# Altium footprint library YaoPCB.PCBLIB: 415 footprints (part 7 of 26)
Each footprint in its own frame and in the unit in brackets; x right, y up, seen from the top. Pads: shape width x height; smd on the part's side, far side on the other; paste and mask are expansions set on the pad; w line width, h text height; cw(c..) or ccw(c..) is an arc to the next point about the centre after c.
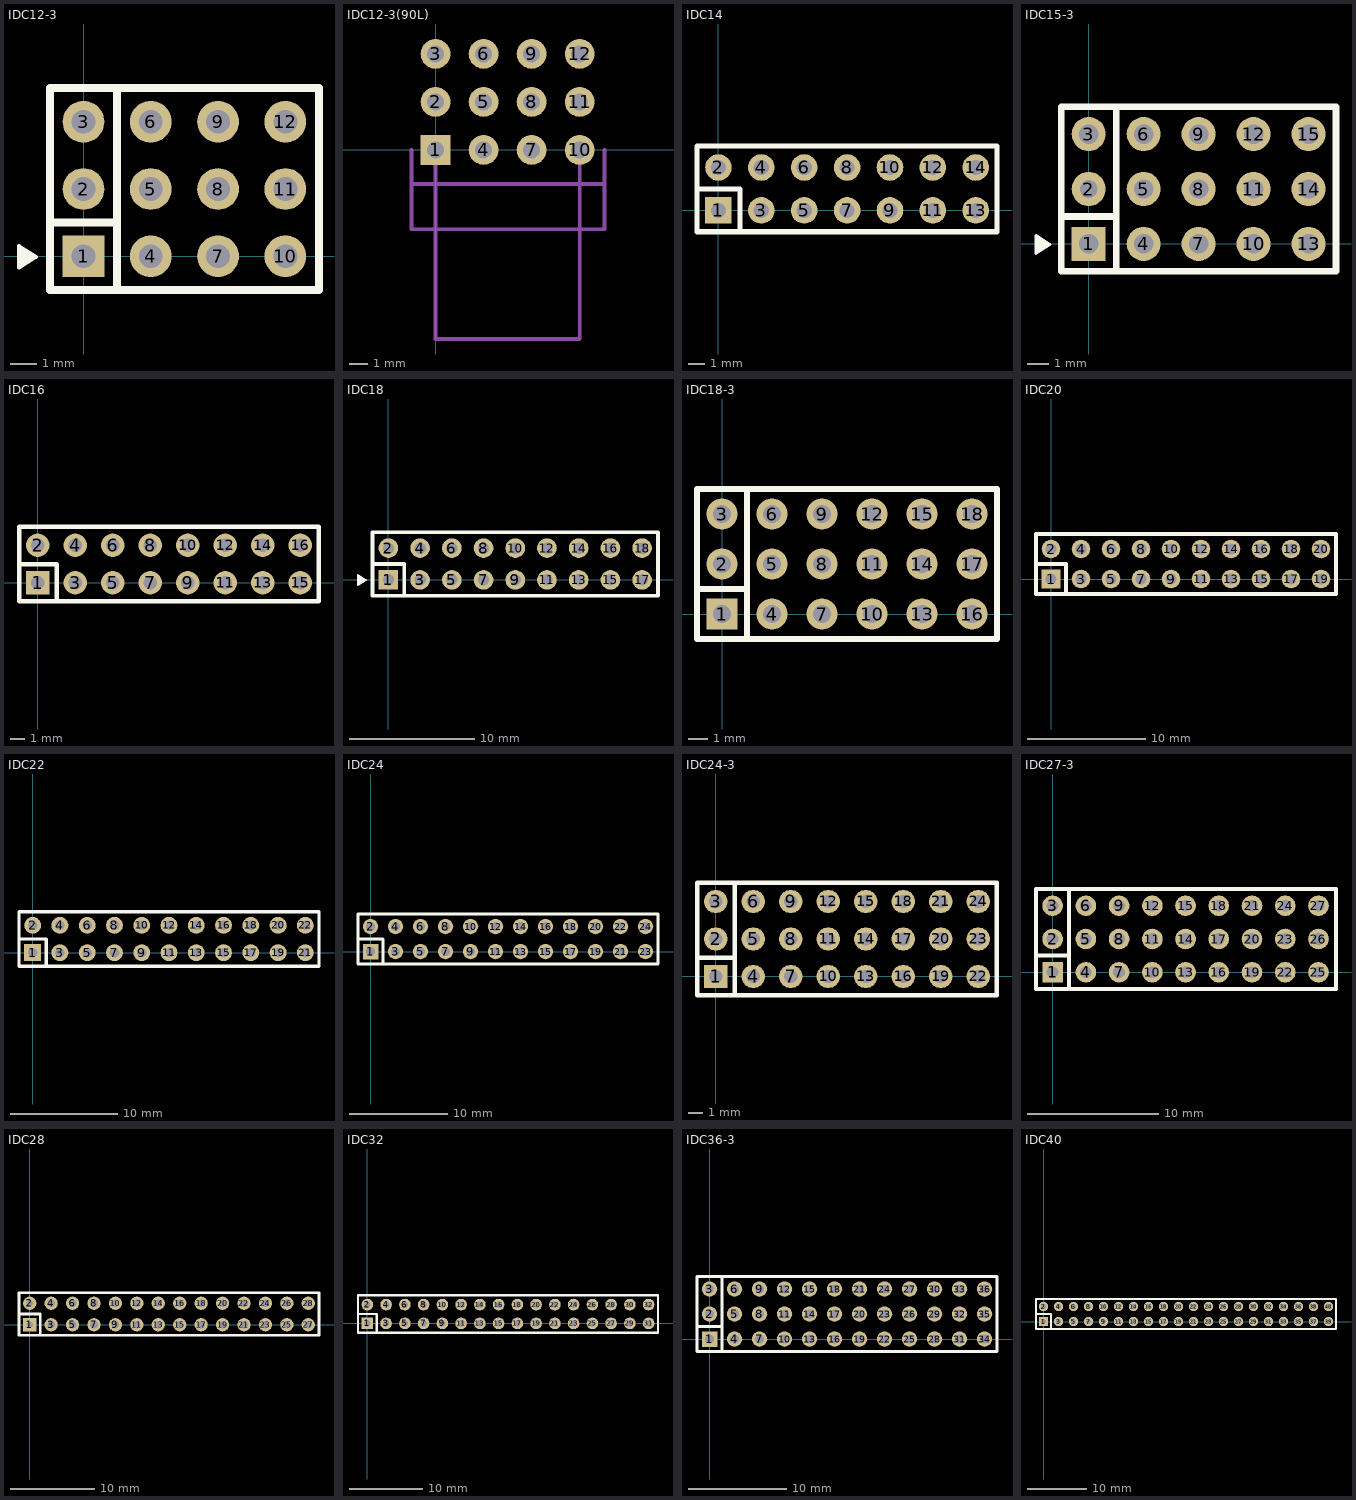
[diagram p6: the footprints below, top view; thin cyan lines are the x and y axes]

## IDC12-3 [mil]
pads (12):
  rect 62x62 hole 35.43: 1(0,0)
  round 62 hole 35.43: 2(0,100) 3(0,200) 4(100,0) 5(100,100) 6(100,200) 7(200,0) 8(200,100) 9(200,200) 10(300,0) 11(300,100) 12(300,200)
TopOverlay:
  lines w6: -82.9,-0.9 -75.9,-0.9 ; -95.9,-16.9 -95.9,15.1 -70.9,-0.9 -95.9,-16.9
  lines w10: -91.9,-8.9 -91.9,8.1 ; -84.9,-3.9 -84.9,3.1
  lines w12: -50,50 50,50 ; 50,-50 50,50 ; 50,250 50,50 ; -50,-50 350,-50 350,250 -50,250 -50,-50

## IDC12-3(90L) [mil]
pads (12):
  rect 62x62 hole 35.43: 1(0,0)
  round 62 hole 35.43: 2(0,100) 3(0,200) 4(100,0) 5(100,100) 6(100,200) 7(200,0) 8(200,100) 9(200,200) 10(300,0) 11(300,100) 12(300,200)
Mechanical15:
  lines w7.87: -50,-70.87 348.82,-70.87 ; -50,0 -50,-165.35 351.57,-165.35 351.57,0 ; 0,0 0,-393.7 300,-393.7 300,0

## IDC14 [mil]
pads (14):
  rect 62x62 hole 35.43: 1(0,0)
  round 62 hole 35.43: 2(0,100) 3(100,0) 4(100,100) 5(200,0) 6(200,100) 7(300,0) 8(300,100) 9(400,0) 10(400,100) 11(500,0) 12(500,100) 13(600,0) 14(600,100)
TopOverlay:
  lines w12: -50,50 50,50 50,-50 ; 649.61,-50.39 649.61,149.61 ; 649.61,-50 -50,-50 -50,150 649.61,150

## IDC15-3 [mil]
pads (15):
  rect 62x62 hole 35.43: 1(0,0)
  round 62 hole 32: 2(0,100)
  round 62 hole 35.43: 3(0,200) 4(100,0) 5(100,100) 6(100,200) 7(200,0) 8(200,100) 9(200,200) 10(300,0) 11(300,100) 12(300,200) 13(400,0) 14(400,100) 15(400,200)
TopOverlay:
  lines w6: -82.9,-0.9 -75.9,-0.9 ; -95.9,-16.9 -95.9,15.1 -70.9,-0.9 -95.9,-16.9
  lines w10: -91.9,-8.9 -91.9,8.1 ; -84.9,-3.9 -84.9,3.1
  lines w12: -50,50 50,50 ; 50,-50 50,50 ; 50,250 50,50 ; -50,-50 450,-50 450,250 -50,250 -50,-50

## IDC16 [mil]
pads (16):
  rect 62x62 hole 35.43: 1(0,0)
  round 62 hole 35.43: 2(0,100) 3(100,0) 4(100,100) 5(200,0) 6(200,100) 7(300,0) 8(300,100) 9(400,0) 10(400,100) 11(500,0) 12(500,100) 13(600,0) 14(600,100) 15(700,0) 16(700,100)
TopOverlay:
  lines w12: -50,50 50,50 50,-50 ; -50,-50 -50,150 750,150 750,-50 -50,-50

## IDC18 [mil]
pads (18):
  rect 62x62 hole 35.43: 1(0,0)
  round 62 hole 35.43: 2(0,100) 3(100,0) 4(100,100) 5(200,0) 6(200,100) 7(300,0) 8(300,100) 9(400,0) 10(400,100) 11(500,0) 12(500,100) 13(600,0) 14(600,100) 15(700,0) 16(700,100) 17(800,0) 18(800,100)
TopOverlay:
  lines w6: -82.9,-0.9 -75.9,-0.9 ; -95.9,-16.9 -70.9,-0.9 -95.9,15.1 -95.9,-16.9
  lines w10: -91.9,-8.9 -91.9,8.1 ; -84.9,-3.9 -84.9,3.1
  lines w12: -50,50 50,50 50,-50 ; -50,-50 -50,150 850,150 850,-50 -50,-50

## IDC18-3 [mil]
pads (18):
  rect 62x62 hole 35.43: 1(0,0)
  round 62 hole 35.43: 2(0,100) 3(0,200) 4(100,0) 5(100,100) 6(100,200) 7(200,0) 8(200,100) 9(200,200) 10(300,0) 11(300,100) 12(300,200) 13(400,0) 14(400,100) 15(400,200) 16(500,0) 17(500,100) 18(500,200)
TopOverlay:
  lines w12: -50,50 50,50 ; 50,-50 50,50 ; 50,250 50,50 ; -50,-50 -50,250 550,250 550,-50 -50,-50

## IDC20 [mil]
pads (20):
  rect 62x62 hole 35.43: 1(0,0)
  round 62 hole 35.43: 2(0,100) 3(100,0) 4(100,100) 5(200,0) 6(200,100) 7(300,0) 8(300,100) 9(400,0) 10(400,100) 11(500,0) 12(500,100) 13(600,0) 14(600,100) 15(700,0) 16(700,100) 17(800,0) 18(800,100) 19(900,0) 20(900,100)
TopOverlay:
  lines w12: -50,50 50,50 50,-50 ; -50,-50 950,-50 950,150 -50,150 -50,-50

## IDC22 [mil]
pads (22):
  rect 62x62 hole 35.43: 1(0,0)
  round 62 hole 35.43: 2(0,100) 3(100,0) 4(100,100) 5(200,0) 6(200,100) 7(300,0) 8(300,100) 9(400,0) 10(400,100) 11(500,0) 12(500,100) 13(600,0) 14(600,100) 15(700,0) 16(700,100) 17(800,0) 18(800,100) 19(900,0) 20(900,100) 21(1000,0) 22(1000,100)
TopOverlay:
  lines w12: -50,50 50,50 50,-50 ; -50,-50 1050,-50 1050,150 -50,150 -50,-50

## IDC24 [mil]
pads (24):
  rect 62x62 hole 35.43: 1(0,0)
  round 62 hole 35.43: 2(0,100) 3(100,0) 4(100,100) 5(200,0) 6(200,100) 7(300,0) 8(300,100) 9(400,0) 10(400,100) 11(500,0) 12(500,100) 13(600,0) 14(600,100) 15(700,0) 16(700,100) 17(800,0) 18(800,100) 19(900,0) 20(900,100) 21(1000,0) 22(1000,100) 23(1100,0) 24(1100,100)
TopOverlay:
  lines w12: -50,50 50,50 50,-50 ; -50,-50 1150,-50 1150,150 -50,150 -50,-50

## IDC24-3 [mil]
pads (24):
  rect 62x62 hole 35.43: 1(0,0)
  round 62 hole 35.43: 2(0,100) 3(0,200) 4(100,0) 5(100,100) 6(100,200) 7(200,0) 8(200,100) 9(200,200) 10(300,0) 11(300,100) 12(300,200) 13(400,0) 14(400,100) 15(400,200) 16(500,0) 17(500,100) 18(500,200) 19(600,0) 20(600,100) 21(600,200) 22(700,0) 23(700,100) 24(700,200)
TopOverlay:
  lines w12: -50,50 50,50 ; 50,-50 50,50 ; 50,250 50,50 ; -50,-50 -50,250 750,250 750,-50 -50,-50

## IDC27-3 [mil]
pads (27):
  rect 62x62 hole 35.43: 1(0,0)
  round 62 hole 35.43: 2(0,100) 3(0,200) 4(100,0) 5(100,100) 6(100,200) 7(200,0) 8(200,100) 9(200,200) 10(300,0) 11(300,100) 12(300,200) 13(400,0) 14(400,100) 15(400,200) 16(500,0) 17(500,100) 18(500,200) 19(600,0) 20(600,100) 21(600,200) 22(700,0) 23(700,100) 24(700,200) 25(800,0) 26(800,100) 27(800,200)
TopOverlay:
  lines w12: -50,50 50,50 ; 50,-50 50,50 ; 50,250 50,50 ; -50,-50 852.76,-50 852.76,250 -50,250 -50,-50

## IDC28 [mil]
pads (28):
  rect 62x62 hole 32: 1(0,0)
  round 62 hole 32: 2(0,100)
  round 62 hole 35.43: 3(100,0) 4(100,100) 5(200,0) 6(200,100) 7(300,0) 8(300,100) 9(400,0) 10(400,100) 11(500,0) 12(500,100) 13(600,0) 14(600,100) 15(700,0) 16(700,100) 17(800,0) 18(800,100) 19(900,0) 20(900,100) 21(1000,0) 22(1000,100) 23(1100,0) 24(1100,100) 25(1200,0) 26(1200,100) 27(1300,0) 28(1300,100)
TopOverlay:
  lines w12: -50,50 50,50 50,-50 ; -50,-50 -50,150 1350,150 1350,-50 -50,-50

## IDC32 [mil]
pads (32):
  rect 62x62 hole 35.43: 1(0,0)
  round 62 hole 35.43: 2(0,100) 3(100,0) 4(100,100) 5(200,0) 6(200,100) 7(300,0) 8(300,100) 9(400,0) 10(400,100) 11(500,0) 12(500,100) 13(600,0) 14(600,100) 15(700,0) 16(700,100) 17(800,0) 18(800,100) 19(900,0) 20(900,100) 21(1000,0) 22(1000,100) 23(1100,0) 24(1100,100) 25(1200,0) 26(1200,100) 27(1300,0) 28(1300,100) 29(1400,0) 30(1400,100) 31(1500,0) 32(1500,100)
TopOverlay:
  lines w12: -50,50 50,50 50,-50 ; -50,-50 -50,150 1550,150 1550,-50 -50,-50

## IDC36-3 [mil]
pads (36):
  rect 62x62 hole 35.43: 1(0,0)
  round 62 hole 35.43: 2(0,100) 3(0,200) 4(100,0) 5(100,100) 6(100,200) 7(200,0) 8(200,100) 9(200,200) 10(300,0) 11(300,100) 12(300,200) 13(400,0) 14(400,100) 15(400,200) 16(500,0) 17(500,100) 18(500,200) 19(600,0) 20(600,100) 21(600,200) 22(700,0) 23(700,100) 24(700,200) 25(800,0) 26(800,100) 27(800,200) 28(900,0) 29(900,100) 30(900,200) 31(1000,0) 32(1000,100) 33(1000,200) 34(1100,0) 35(1100,100) 36(1100,200)
TopOverlay:
  lines w12: -50,50 50,50 ; 50,-50 50,50 ; 50,250 50,50 ; -50,-50 1150,-50 1150,250 -50,250 -50,-50

## IDC40 [mil]
pads (40):
  rect 62x62 hole 35.43: 1(0,0)
  round 62 hole 35.43: 2(0,100) 3(100,0) 4(100,100) 5(200,0) 6(200,100) 7(300,0) 8(300,100) 9(400,0) 10(400,100) 11(500,0) 12(500,100) 13(600,0) 14(600,100) 15(700,0) 16(700,100) 17(800,0) 18(800,100) 19(900,0) 20(900,100) 21(1000,0) 22(1000,100) 23(1100,0) 24(1100,100) 25(1200,0) 26(1200,100) 27(1300,0) 28(1300,100) 29(1400,0) 30(1400,100) 31(1500,0) 32(1500,100) 33(1600,0) 34(1600,100) 35(1700,0) 36(1700,100) 37(1800,0) 38(1800,100) 39(1900,0) 40(1900,100)
TopOverlay:
  lines w12: -50,50 50,50 50,-50 ; -50,-50 -50,150 1950,150 1950,-50 -50,-50